# EAGLE library part SD_SOCKET (library Tari)
SD card holder. ALPS SCDA9A0400, may be compatible with similar parts. CD switch closes when a card is inserted, WP switch closes when card write-protect switch is off (card is writable). Verify footprint before use.
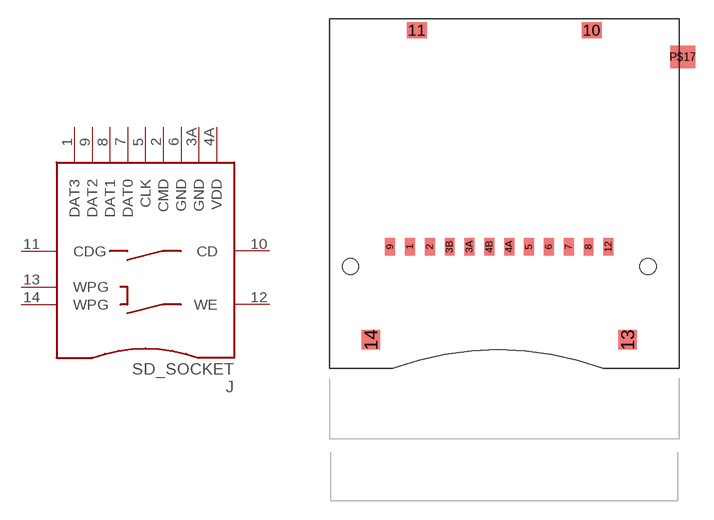
[diagram p3: symbol with the pads of ALPS_SCDA7A0200; footprint ALPS_SCDA7A0200]

Designator prefix J

## SD_SOCKET  [ALPS_SCDA7A0200]
1  DAT3
2  CMD
3A  GND
4A  VDD
5  CLK
6  GND
7  DAT0
8  DAT1
9  DAT2
10  CD
11  CDG
12  WE
13  WPG
14  WPG

## Footprint ALPS_SCDA7A0200 (pad centres in mm)
ALPS SCDA7A0200 SD card socket. This socket sits flush with the board, 5mm card stroke. Footprint may be compatible with other sockets but hasn't been checked.
smd 0.8 x 1.4: 1 -7.6,-18.4; 2 -6,-18.4; 3A -2.8,-18.4; 3B -4.4,-18.4; 4A 0.4,-18.4; 4B -1.2,-18.4; 5 2,-18.4; 6 3.6,-18.4; 7 5.2,-18.4; 8 6.8,-18.4; 9 -9.2,-18.4; 12 8.4,-18.4
smd 1.6 x 1.3: 10 7.05,-0.95; 11 -7.05,-0.95
smd 1.5 x 1.6: 13 9.95,-25.9; 14 -10.75,-25.9
smd 2 x 1.8: P$17 14.4,-3.1
hole 1.3 at -12.4,-20
hole 1.3 at 11.6,-20